# Altium schematic symbol library Schlib_Winbond_Electronics.SchLib: 5 symbols
Pins are listed as number, name and electrical type; pins without a type are passive.

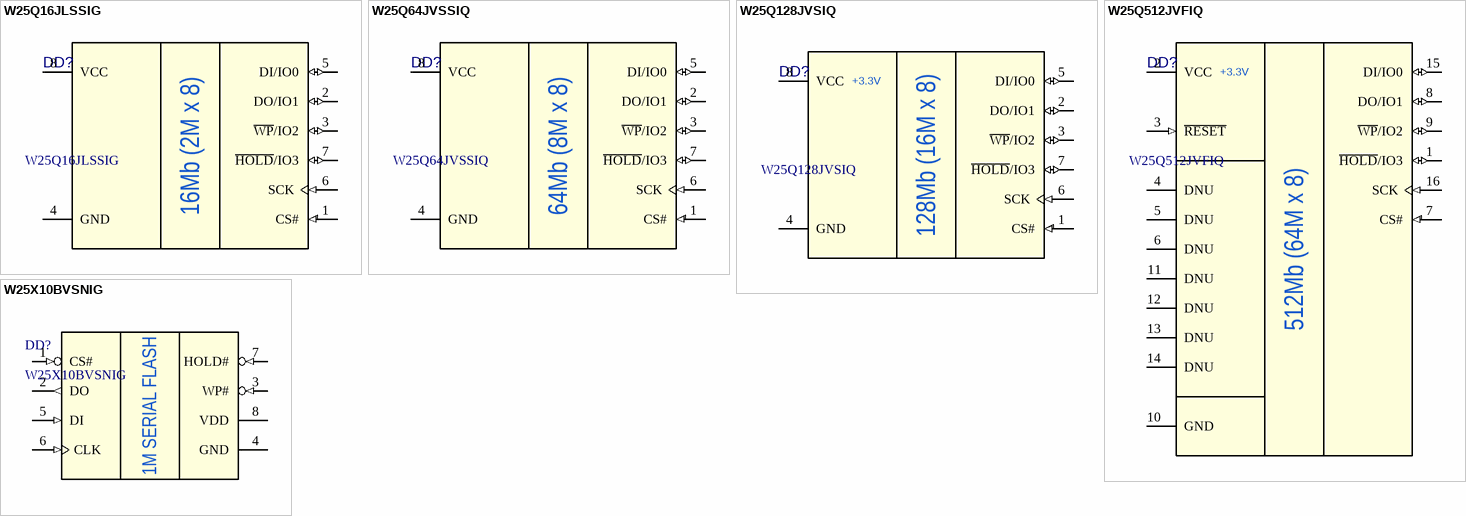
[diagram p0: symbols W25Q16JLSSIG to W25X10BVSNIG]

## W25Q16JLSSIG
designator DD?
16M-BIT SERIAL FLASH MEMORY WITH DUAL AND QUAD SPI; Manufacturer: Winbond Electronics; Part Number: W25Q16JLSSIG; Package: SOIC-8 (208 mil)
footprint SOIC-8-WIDE (SOIC, 8-Leads, Body 4.50x4.50mm, Pitch 1.27mm, Thermal Pad 4.20x4.20mm, IPC Medium Density)
footprint SOIC-8-WIDE_WITH_SOIC-16N (SOIC, 8-Leads, Body 4.50x4.50mm, Pitch 1.27mm, Thermal Pad 4.20x4.20mm, IPC Medium Density with SOIC 16-Leads, Body 10.29x7.49mm, Pitch 1.27mm, IPC Medium Density)
pins: 1 CS# (in) "GND", 2 DO/IO1 (io) "GND", 3 ~{WP}/IO2 (io) "GND", 4 GND (power), 5 DI/IO0 (io) "GND", 6 SCK (in) "GND", 7 ~{HOLD}/IO3 (io) "GND", 8 VCC (power) "GND"
1 alternate drawing of the same symbol
text: 16Mb (2M x 8)

## W25Q64JVSSIQ
designator DD?
64M-BIT SERIAL FLASH MEMORY WITH DUAL AND QUAD SPI; Manufacturer: Winbond Electronics; Part Number: W25Q64JVSSIQ; Package: SOIC-8 (208 mil)
footprint SOIC-8-WIDE (SOIC, 8-Leads, Body 4.50x4.50mm, Pitch 1.27mm, Thermal Pad 4.20x4.20mm, IPC Medium Density)
footprint SOIC-8-WIDE_WITH_SOIC-16N (SOIC, 8-Leads, Body 4.50x4.50mm, Pitch 1.27mm, Thermal Pad 4.20x4.20mm, IPC Medium Density with SOIC 16-Leads, Body 10.29x7.49mm, Pitch 1.27mm, IPC Medium Density)
pins: 1 CS# (in) "GND", 2 DO/IO1 (io) "GND", 3 ~{WP}/IO2 (io) "GND", 4 GND (power), 5 DI/IO0 (io) "GND", 6 SCK (in) "GND", 7 ~{HOLD}/IO3 (io) "GND", 8 VCC (power) "GND"
1 alternate drawing of the same symbol
text: 64Mb (8M x 8)

## W25Q128JVSIQ
designator DD?
128M-BIT SERIAL FLASH MEMORY WITH DUAL AND QUAD SPI; Manufacturer: Winbond Electronics; Part Number: W25Q128JVSIQ; Package: SOIC-8 (208 mil)
footprint SOIC-8-WIDE (SOIC, 8-Leads, Body 4.50x4.50mm, Pitch 1.27mm, Thermal Pad 4.20x4.20mm, IPC Medium Density)
footprint SOIC-8-WIDE_WITH_SOIC-16N (SOIC, 8-Leads, Body 4.50x4.50mm, Pitch 1.27mm, Thermal Pad 4.20x4.20mm, IPC Medium Density with SOIC 16-Leads, Body 10.29x7.49mm, Pitch 1.27mm, IPC Medium Density)
pins: 1 CS# (in) "GND", 2 DO/IO1 (io) "GND", 3 ~{WP}/IO2 (io) "GND", 4 GND (power), 5 DI/IO0 (io) "GND", 6 SCK (in) "GND", 7 ~{HOLD}/IO3 (io) "GND", 8 VCC (power) "GND"
1 alternate drawing of the same symbol
text: +3.3V; 128Mb (16M x 8)

## W25Q512JVFIQ
designator DD?
512M-BIT SERIAL FLASH MEMORY WITH DUAL AND QUAD SPI; Manufacturer: Winbond Electronics; Part Number: W25Q512JVFIQ; Package: SOIC-16 (300 mil)
footprint SOIC-16N (SOIC16 300mil, 16-Leads, Body 10.29x7.49mm, Pitch 1.27mm, IPC Medium Density)
footprint SOIC-16N_With_SOIC-8 (SOIC16 300mil, 16-Leads, Body 10.29x7.49mm, Pitch 1.27mm, IPC Medium Density)
pins: 1 ~{HOLD}/IO3 (io) "GND", 2 VCC (power) "GND", 3 ~{RESET} (in) "GND", 4 DNU (hiz) "GND", 5 DNU (hiz) "GND", 6 DNU (hiz) "GND", 7 CS# (in) "GND", 8 DO/IO1 (io) "GND", 9 ~{WP}/IO2 (io) "GND", 10 GND (power), 11 DNU (hiz) "GND", 12 DNU (hiz) "GND", 13 DNU (hiz) "GND", 14 DNU (hiz) "GND", 15 DI/IO0 (io) "GND", 16 SCK (in) "GND"
1 alternate drawing of the same symbol
text: +3.3V; 512Mb (64M x 8)

## W25X10BVSNIG
designator DD?
1M-BIT [x1] Cmos Serial Flash Memory; Manufacturer: Winbond Electronics; Part Number: W25X10BVSNIG; Package: SOIC-8
footprint SOIC-8 (SOIC-8 package)
pins: 1 CS# (in), 2 DO (out), 3 WP# (in), 4 GND (power), 5 DI (in), 6 CLK (in), 7 HOLD# (in), 8 VDD (power)
text: 1M SERIAL FLASH